# EAGLE library part ES_HEADPHONE_AMP (library Electrosmith-Boards)
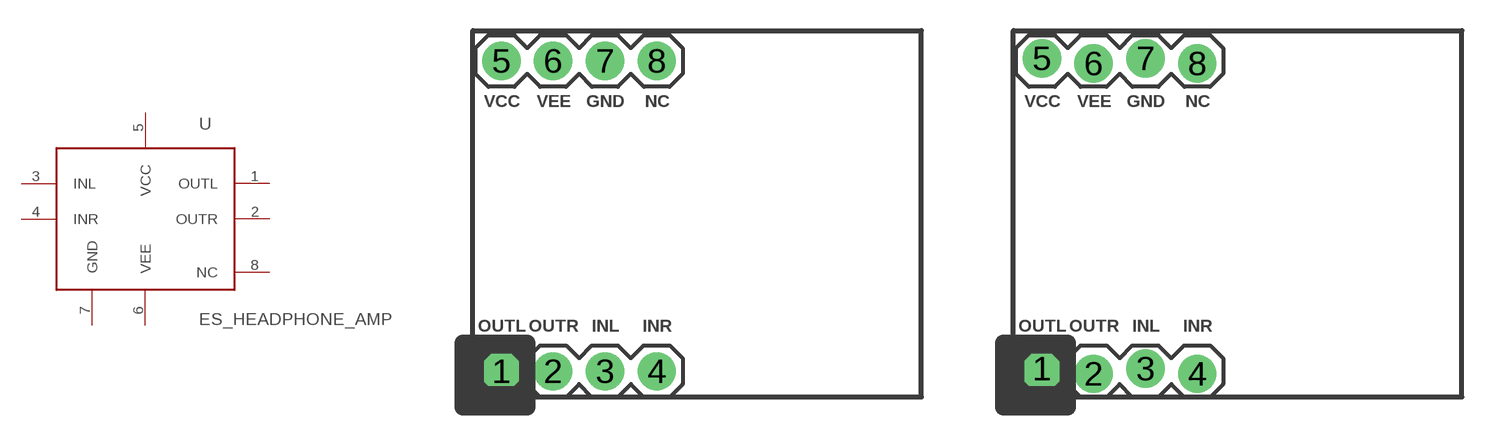
[diagram p12: symbol with the pads of ES_HEADPHONE_AMP; footprints ES_HEADPHONE_AMP, ES_HEADPHONE_AMP_LOCK]

Designator prefix U

## ES_HEADPHONE_AMP  [ES_HEADPHONE_AMP]
1  OUTL
2  OUTR
3  INL
4  INR
5  VCC
6  VEE
7  GND
8  NC

## ES_HEADPHONE_AMP_LOCK  [ES_HEADPHONE_AMP_LOCK]
Pads as for ES_HEADPHONE_AMP

## Footprint ES_HEADPHONE_AMP (pad centres in mm)
drill 1.016 pad 1.88 square: 1 1.395,1.268
drill 1.016 pad 1.88: 2 3.935,1.268; 3 6.475,1.268; 4 9.015,1.268; 5 1.395,16.508; 6 3.935,16.508; 7 6.475,16.508; 8 9.015,16.508

## Footprint ES_HEADPHONE_AMP_LOCK (pad centres in mm)
drill 1.016 pad 1.88 square: 1 1.395,1.395
drill 1.016 pad 1.88: 2 3.935,1.141; 3 6.475,1.395; 4 9.015,1.141; 5 1.395,16.635; 6 3.935,16.381; 7 6.475,16.635; 8 9.015,16.381